# Altium schematic symbol library L6393D.Schlib: 1 symbol
Pins are listed as number, name and electrical type; pins without a type are passive.

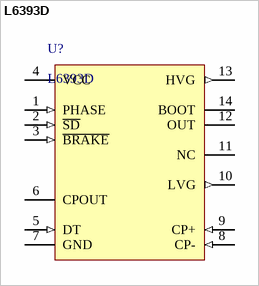
[diagram p0: symbol L6393D]

## L6393D
designator U?
Half-Bridge Gate Driver IC Non-Inverting 14-SO
pins: 1 PHASE (in), 2 ~{SD} (in), 3 ~{BRAKE} (in), 4 VCC (power), 5 DT (in), 6 CPOUT (oc), 7 GND (power), 8 CP- (in), 9 CP+ (in), 10 LVG (out), 11 NC, 12 OUT (power), 13 HVG (out), 14 BOOT (power)